# Altium footprint library 1_2OHM.PcbLib: 1 footprints
Each footprint in its own frame and in the unit in brackets; x right, y up, seen from the top. Pads: shape width x height; smd on the part's side, far side on the other; paste and mask are expansions set on the pad; w line width, h text height; cw(c..) or ccw(c..) is an arc to the next point about the centre after c.
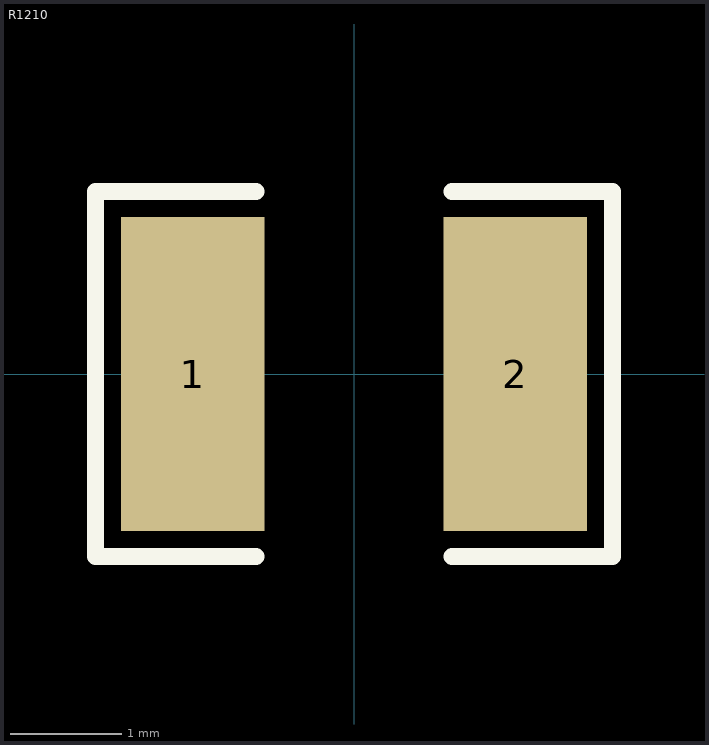
[diagram p0: the footprint, top view; thin cyan lines are the x and y axes]

## R1210 [mm]
pads (2):
  rect 1.283x2.808 smd paste-100 mask+0.051: 1(-1.441,0) 2(1.441,0)
Top Overlay:
  lines w0.152: -0.876,-1.633 -2.311,-1.633 -2.311,1.633 -0.876,1.633 ; 0.876,-1.633 2.311,-1.633 2.311,1.633 0.876,1.633
Top Paste:
  region: 0.8,-1.304 0.8,-0.577 0.9,-0.477 1.136,-0.477 1.236,-0.377 1.236,0.377 1.136,0.477 0.9,0.477 0.8,0.577 0.8,1.304 0.9,1.404 1.983,1.404 2.083,1.304 2.083,-1.304 1.983,-1.404 0.9,-1.404
  region: -0.8,-1.304 -0.8,-0.577 -0.9,-0.477 -1.136,-0.477 -1.236,-0.377 -1.236,0.377 -1.136,0.477 -0.9,0.477 -0.8,0.577 -0.8,1.304 -0.9,1.404 -1.983,1.404 -2.083,1.304 -2.083,-1.304 -1.983,-1.404 -0.9,-1.404
3D body "1210_RES.STEP": height 0.7, standoff 0, extent -1.6,-1.3 1.6,1.3